# EAGLE library part AMC1200TDWVRQ1 (library MotorControllerEagleLibrary)
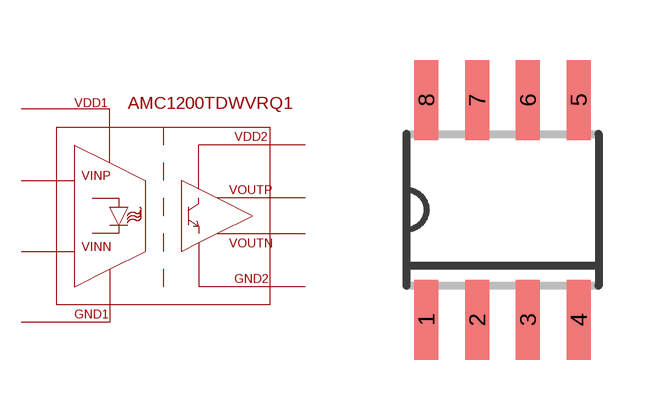
[diagram p5: symbol with the pads of SOIC8; footprint SOIC8]

Designator prefix -

## AMC1200TDWVRQ1  [SOIC8]
1  1
2  2
3  3
4  4
5  5
6  6
7  7
8  8

## Footprint SOIC8 (pad centres in mm)
SOIC-8 CASE 751-07 Source: http://www.onsemi.com/pub/Collateral/MC34164-D.PDF D (R-PDSO-G8)PLATIC SMALL-OUTLINE PACKAGE Source: http://focus.ti.com/lit/ds/symlink/tlc27l2.pdf
smd 0.6 x 2: 1 -1.905,-2.75; 2 -0.635,-2.75; 3 0.635,-2.75; 4 1.905,-2.75; 5 1.905,2.75; 6 0.635,2.75; 7 -0.635,2.75; 8 -1.905,2.75